# EAGLE library part CA (library gost_res)
Сборка из 4 резисторов 0603
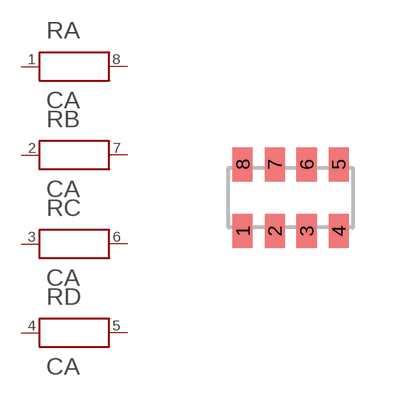
[diagram p0: symbol with the pads of CAT16; footprint CAT16]

Designator prefix R; gates A=RES_PADS B=RES_PADS C=RES_PADS D=RES_PADS

## CAT16 (TYPE: CAT16)  [CAT16]
1  A:1  pas
2  B:1  pas
3  C:1  pas
4  D:1  pas
5  D:2  pas
6  C:2  pas
7  B:2  pas
8  A:2  pas

## Footprint CAT16 (pad centres in mm)
Сборка резисторная CAT16-F4/-J4
smd 0.5 x 0.85: 1 -1.2,-0.834; 2 -0.4,-0.834; 3 0.4,-0.834; 4 1.2,-0.834; 5 1.2,0.834; 6 0.4,0.834; 7 -0.4,0.834; 8 -1.2,0.834